# EAGLE library part PSH04-06 (library #PaJa_konektory)
Konektory se zamkem - vidlice - 6pin, RM3,96mm
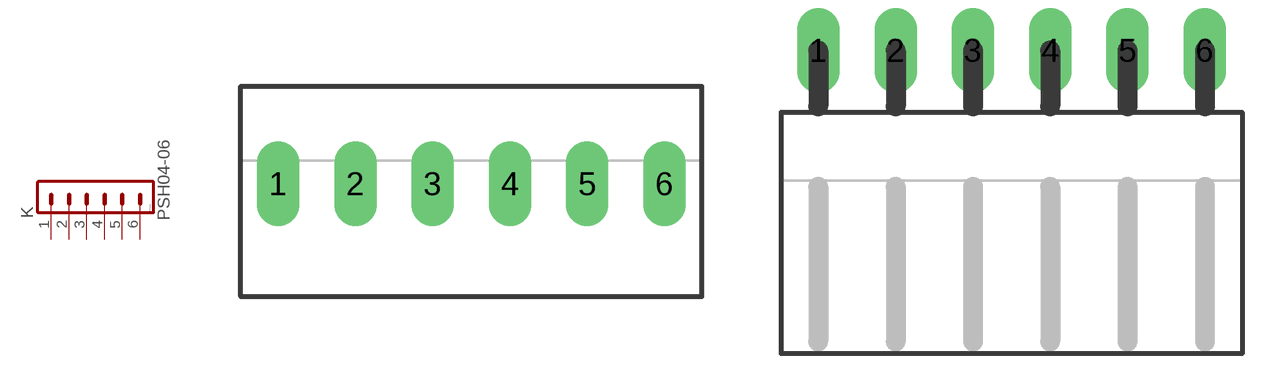
[diagram p14: symbol with the pads of PSH04-06P; footprints PSH04-06P, PSH04-06W]

Designator prefix K

## PSH04-06P  [PSH04-06P]
1  1  pas
2  2  pas
3  3  pas
4  4  pas
5  5  pas
6  6  pas

## PSH04-06W  [PSH04-06W]
Pads as for PSH04-06P

## Footprint PSH04-06P (pad centres in mm)
drill 1.2 pad 2.184 long: 1 -9.906,0; 2 -5.944,0; 3 -1.981,0; 4 1.981,0; 5 5.944,0; 6 9.906,0

## Footprint PSH04-06W (pad centres in mm)
drill 1.2 pad 2.184 long: 1 -9.906,0; 2 -5.944,0; 3 -1.981,0; 4 1.981,0; 5 5.944,0; 6 9.906,0